# Altium schematic symbol library TPB4056A20-DFGR.SchLib: 2 symbols
Pins are listed as number, name and electrical type; pins without a type are passive.

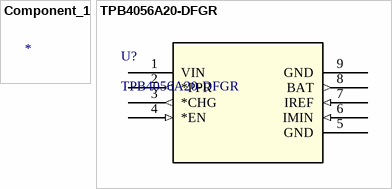
[diagram p0: symbols Component_1 to TPB4056A20-DFGR]

## Component_1
designator *  (value not drawn)

## TPB4056A20-DFGR
designator U?
No Description Available; Manufacturer_Name: 3Peak; Copyright: Copyright (C) 2025 Ultra Librarian. All rights reserved.; Manufacturer_Part_Number: TPB4056A20-DFGR; RefDes: RefDes; Type: Type
footprint DFN2X2-8_TPK
pins: 1 VIN (power), 2 *PPR (out), 3 *CHG (out), 4 *EN (in), 5 GND (power), 6 IMIN (in), 7 IREF (in), 8 BAT (out), 9 GND (power)